# EAGLE library part 418217270903 (library Wurth_Elektronik_Electromechanic_Switchs_rev15b)
WS-RA 2.54 mm right angled compact THT Dip Switch with raised actuator, 3 Pole
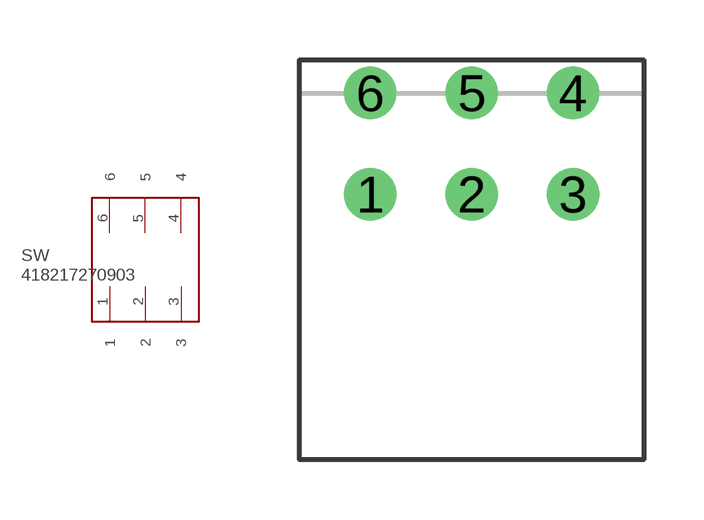
[diagram p74: symbol with the pads of 418217270903; footprint 418217270903]

Designator prefix SW

## 418217270903  [418217270903]
1  1
2  2
3  3
4  4
5  5
6  6

## Footprint 418217270903 (pad centres in mm)
WS-RA 2.54 mm right angled compact THT Dip Switch with raised actuator, 3 Pole
drill 0.8: 1 0,-1.27; 2 2.54,-1.27; 3 5.08,-1.27; 4 5.08,1.27; 5 2.54,1.27; 6 0,1.27